# EAGLE library part DM9368* (library mita-akiba)
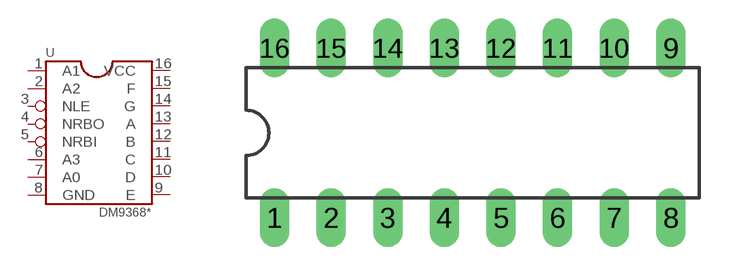
[diagram p35: symbol with the pads of DIL16; footprint DIL16]

Designator prefix -

## DM9368N  [DIL16]
1  A1
2  A2
3  NLE
4  NRBO
5  NRBI
6  A3
7  A0
8  GND
9  E
10  D
11  C
12  B
13  A
14  G
15  F
16  VCC

## Footprint DIL16 (pad centres in mm)
Dual In Line Package
drill 0.813 long: 1 -8.89,-3.81; 2 -6.35,-3.81; 3 -3.81,-3.81; 4 -1.27,-3.81; 5 1.27,-3.81; 6 3.81,-3.81; 7 6.35,-3.81; 8 8.89,-3.81; 9 8.89,3.81; 10 6.35,3.81; 11 3.81,3.81; 12 1.27,3.81; 13 -1.27,3.81; 14 -3.81,3.81; 15 -6.35,3.81; 16 -8.89,3.81